# EAGLE library part LT3763 (library misc)
LT3763 60V High Current Step-Down LED Driver Controller Linear Technology, see 3763fb datasheet Igor Odaikin, 2019
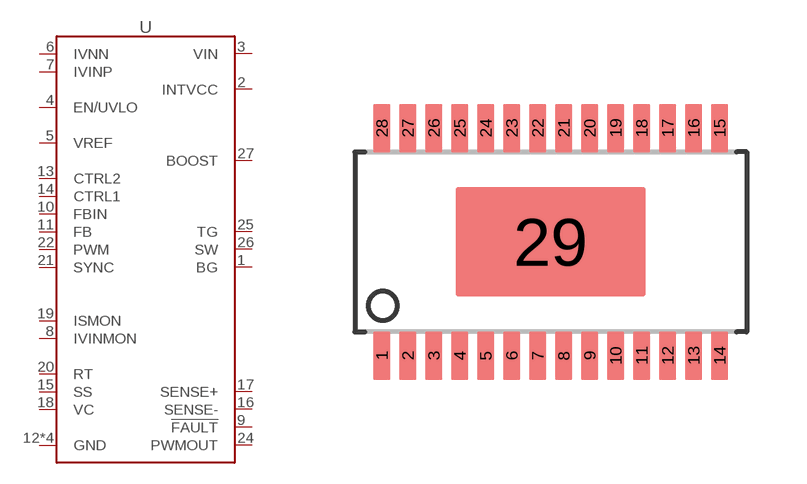
[diagram p95: symbol with the pads of TSSOP28-EP; footprint TSSOP28-EP]

Designator prefix U

## LT3763-2 (MANF: Analog Devices; MANF#: LT3763HFE)  [TSSOP28-EP]
1  BG  out
2  INTVCC  pas
3  VIN  pas
4  EN/UVLO  pas
5  VREF  pas
6  IVNN  pas
7  IVINP  pas
8  IVINMON  pas
9  !FAULT  out
10  FBIN  pas
11  FB  pas
12  GND  pas
13  CTRL2  pas
14  CTRL1  pas
15  SS  pas
16  SENSE-  pas
17  SENSE+  pas
18  VC  pas
19  ISMON  pas
20  RT  pas
21  SYNC  in
22  PWM  in
23  GND  pas
24  PWMOUT  out
25  TG  out
26  SW  pas
27  BOOST  pas
28  GND  pas
29  GND  pas

## Footprint TSSOP28-EP (pad centres in mm)
28 pin TSSOP FE Package 28-Lead Plastic TSSOP (4.4mm) (Reference LTC DWG # 05-08-1663 Rev I) Exposed Pad Variation EB Extended pad length Linear Technology, see 3763fb datasheet Igor Odaikin, Mar'2021
smd 0.432 x 1.219: 1 -4.225,-2.845; 2 -3.575,-2.845; 3 -2.925,-2.845; 4 -2.275,-2.845; 5 -1.625,-2.845; 6 -0.975,-2.845; 7 -0.325,-2.845; 8 0.325,-2.845; 9 0.975,-2.845; 10 1.625,-2.845; 11 2.275,-2.845; 12 2.925,-2.845; 13 3.575,-2.845; 14 4.225,-2.845; 15 4.225,2.845; 16 3.575,2.845; 17 2.925,2.845; 18 2.275,2.845; 19 1.625,2.845; 20 0.975,2.845; 21 0.325,2.845; 22 -0.325,2.845; 23 -0.975,2.845; 24 -1.625,2.845; 25 -2.275,2.845; 26 -2.925,2.845; 27 -3.575,2.845; 28 -4.225,2.845
smd 4.75 x 2.74: 29 0,0